# Altium schematic symbol library AOD454A NMOS.SchLib: 1 symbol
Pins are listed as number, name and electrical type; pins without a type are passive.

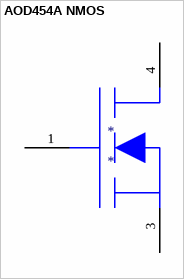
[diagram p0: symbol AOD454A NMOS]

## AOD454A NMOS
designator *
footprint TO252- no center pin
pins: 1 1 - Gate, 3 3 - Source, 4 4 - Drain